# EAGLE library part IC_L9110_MOTOR (library TD-MySensors)
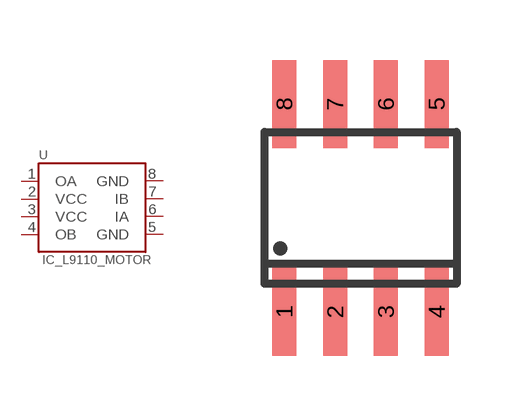
[diagram p2: symbol with the pads of SO-08; footprint SO-08]

Designator prefix U

## IC_L9110_MOTORSO8  [SO-08]
1  OA  out
2  VCC  pwr
3  VCC  pwr
4  OB  out
5  GND  pwr
6  IA  in
7  IB  in
8  GND  pwr

## Footprint SO-08 (pad centres in mm)
Small Outline Narrow Plastic Gull Wing 150-mil body, package type SN
smd 0.6 x 2.2: 1 -1.905,-2.6; 2 -0.635,-2.6; 3 0.635,-2.6; 4 1.905,-2.6; 5 1.905,2.6; 6 0.635,2.6; 7 -0.635,2.6; 8 -1.905,2.6